# Altium integrated library TI Data Converters Analog to Digital Converter.IntLib: 2198 symbols (part 105 of 164)
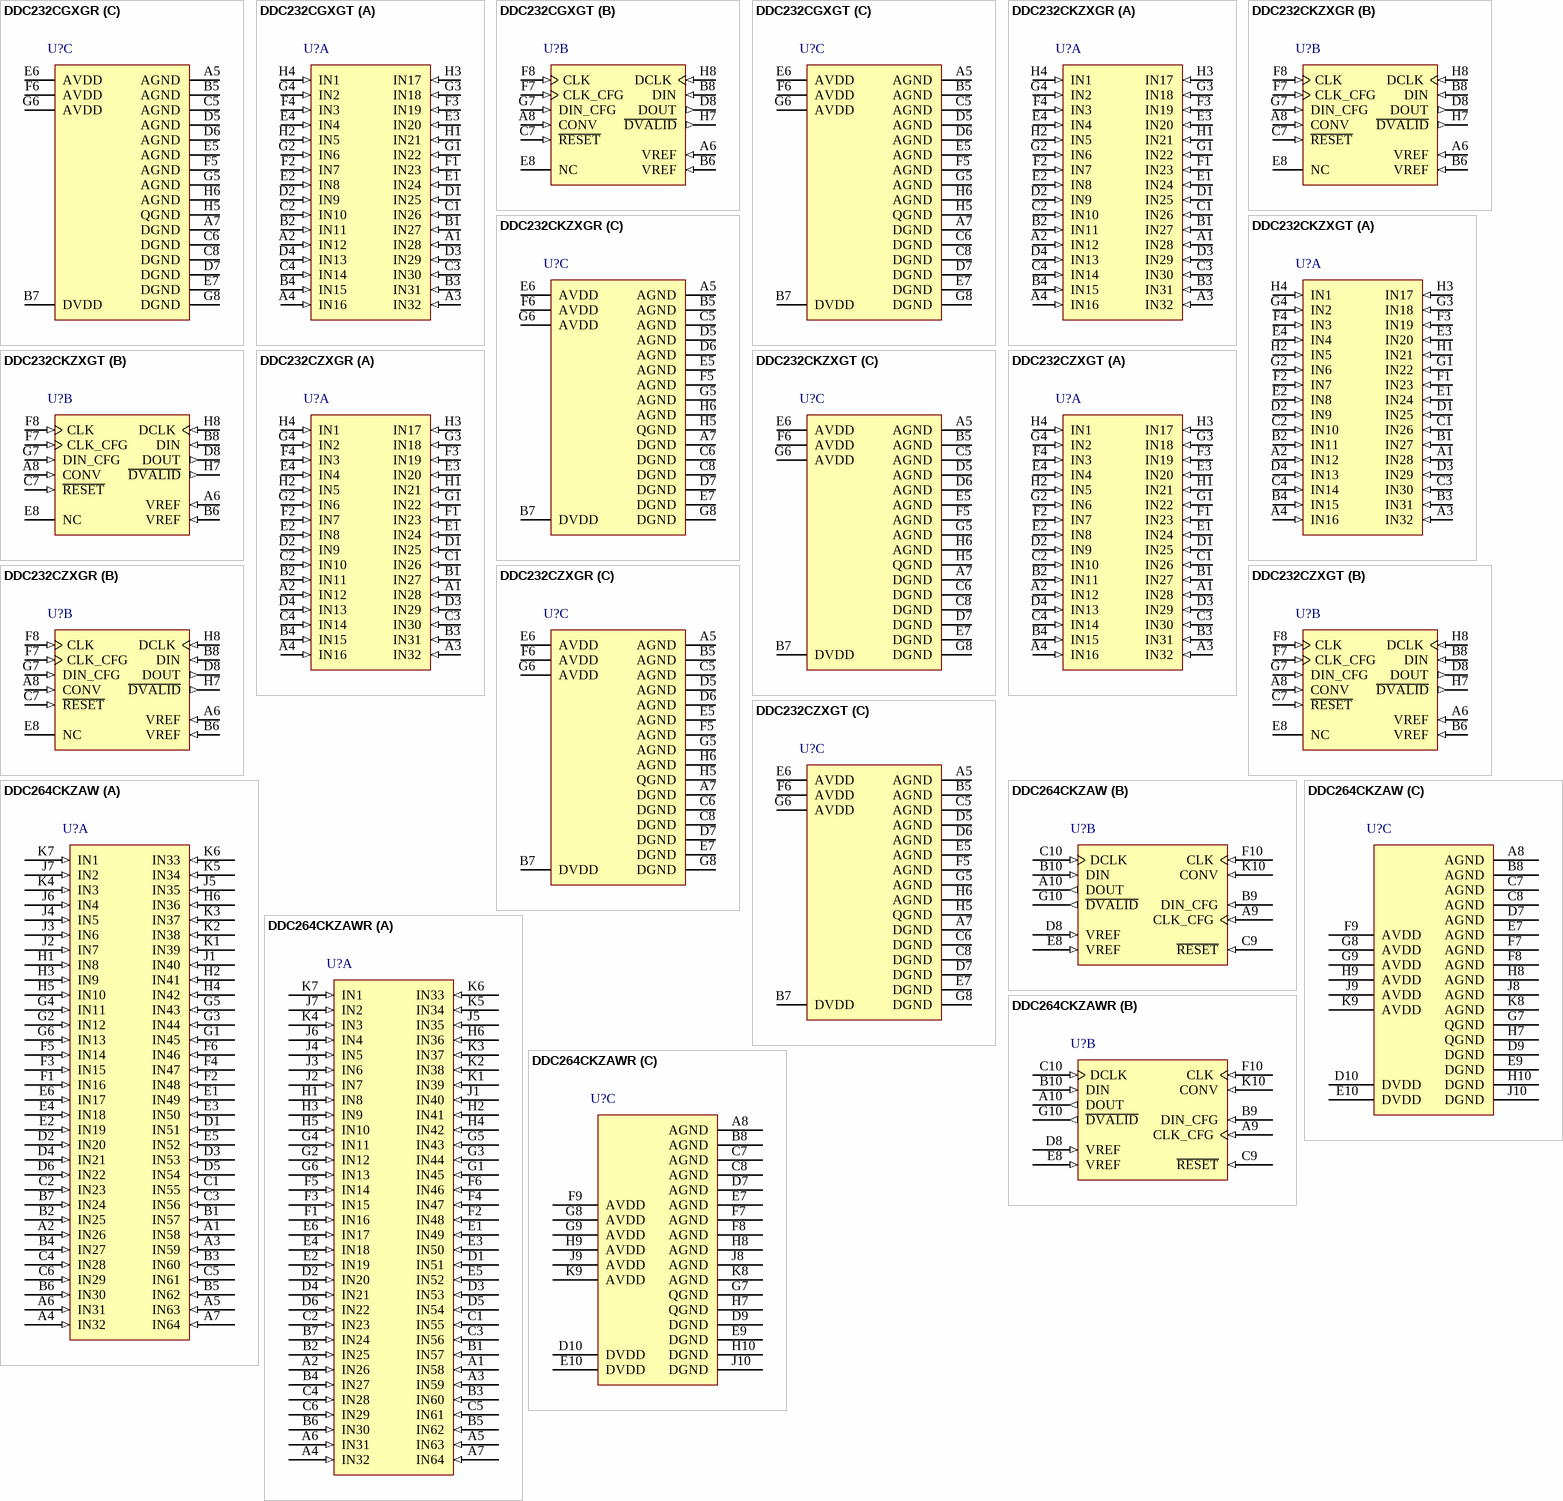
[diagram p230: symbols DDC232CGXGR to DDC264CKZAWR]

## DDC232CKZXGT
designator U?
32 Channel Current-Input 20-Bit ADC, 0 to 70 degC, 64-pin BGA (ZXG64), Green (RoHS & no Sb/Br); Manufacturer: Texas Instruments; PartNumber: DDC232CKZXGT; # Input Channels: 32; Analog Voltage AV/DD(Max)(V): 5.1; Analog Voltage AV/DD(Min)(V): 4.9; Architecture: Delta-Sigma; Digital Supply(Max)(V): 3.6; Digital Supply(Min)(V): 2.7; Resolution(Bits): 19; Sample Rate (max)(SPS): 6.2k; SubFamily: Low Power, 8-Bit, Dual 1.5 GSPS or Single 3.0 GSPS A/D Converter; DatasheetVersion: SBAS331D; PackageVersion: 4206838/A, 02/2005; PackageReference: ZXG64; PackageDescription: 64-Pin Plastic Ball Grid Array, Body 8 x 8 mm, Pitch 0.8 mm; Supplier 1: Digi-Key; Supplier Part Number 1: ADS574KE-ND; Eco-Plan: Green (RoHS & no Sb/Br); Mounting Technology: Surface Mount; ComponentLink1Description: Manufacturer URL; ComponentLink1URL: http://www.ti.com/; ComponentLink2Description: Datasheet; ComponentLink2URL: http://www.ti.com/general/docs/lit/getliterature.tsp?genericPartNumber=DDC232&fileType=pdf; ComponentLink3Description: Package Specification; ComponentLink3URL: http://www.ti.com/litv/pdf/mpbg581
footprint TI-ZXG64 (BGA, 64-Balls, Body 8x8mm, Pitch 0.8mm)
part A pins: A1 IN28 (in) "Analog Inputs for Channels 1 to 32", A2 IN12 (in) "Analog Inputs for Channels 1 to 32", A3 IN32 (in) "Analog Inputs for Channels 1 to 32", A4 IN16 (in) "Analog Inputs for Channels 1 to 32", B1 IN27 (in) "Analog Inputs for Channels 1 to 32", B2 IN11 (in) "Analog Inputs for Channels 1 to 32", B3 IN31 (in) "Analog Inputs for Channels 1 to 32", B4 IN15 (in) "Analog Inputs for Channels 1 to 32", C1 IN26 (in) "Analog Inputs for Channels 1 to 32", C2 IN10 (in) "Analog Inputs for Channels 1 to 32", C3 IN30 (in) "Analog Inputs for Channels 1 to 32", C4 IN14 (in) "Analog Inputs for Channels 1 to 32", D1 IN25 (in) "Analog Inputs for Channels 1 to 32", D2 IN9 (in) "Analog Inputs for Channels 1 to 32", D3 IN29 (in) "Analog Inputs for Channels 1 to 32", D4 IN13 (in) "Analog Inputs for Channels 1 to 32", E1 IN24 (in) "Analog Inputs for Channels 1 to 32", E2 IN8 (in) "Analog Inputs for Channels 1 to 32", E3 IN20 (in) "Analog Inputs for Channels 1 to 32", E4 IN4 (in) "Analog Inputs for Channels 1 to 32", F1 IN23 (in) "Analog Inputs for Channels 1 to 32", F2 IN7 (in) "Analog Inputs for Channels 1 to 32", F3 IN19 (in) "Analog Inputs for Channels 1 to 32", F4 IN3 (in) "Analog Inputs for Channels 1 to 32", G1 IN22 (in) "Analog Inputs for Channels 1 to 32", G2 IN6 (in) "Analog Inputs for Channels 1 to 32", G3 IN18 (in) "Analog Inputs for Channels 1 to 32", G4 IN2 (in) "Analog Inputs for Channels 1 to 32", H1 IN21 (in) "Analog Inputs for Channels 1 to 32", H2 IN5 (in) "Analog Inputs for Channels 1 to 32", H3 IN17 (in) "Analog Inputs for Channels 1 to 32", H4 IN1 (in) "Analog Inputs for Channels 1 to 32"
part B pins: A6 VREF (in) "External Voltage Reference Input, +4.096V Nominal", A8 CONV (in) "Conversion Control Input; 0 = Integrate on Side B, 1 = Integrate on Side A", B6 VREF (in) "External Voltage Reference Input, +4.096V Nominal", B8 DIN (in) "Serial Data Input", C7 ~{RESET} (in) "Digital Reset, Active Low", D8 DOUT (out) "Serial Data Output", E8 NC "Do not connect; must be left floating.", F7 CLK_CFG (in) "Configuration Register Clock Input", F8 CLK (in) "Master Clock Input", G7 DIN_CFG (in) "Configuration Register Data Input", H7 ~{DVALID} (out) "Data Valid Output, Active Low", H8 DCLK (in) "Serial Data Clock Input"
part C pins: A5 AGND (power) "Analog Ground", A7 DGND (power) "Digital Ground", B5 AGND (power) "Analog Ground", B7 DVDD (power) "Digital Power Supply, 3.3V Nominal", C5 AGND (power) "Analog Ground", C6 DGND (power) "Digital Ground", C8 DGND (power) "Digital Ground", D5 AGND (power) "Analog Ground", D6 AGND (power) "Analog Ground", D7 DGND (power) "Digital Ground", E5 AGND (power) "Analog Ground", E6 AVDD (power) "Analog Power Supply, +5V Nominal", E7 DGND (power) "Digital Ground", F5 AGND (power) "Analog Ground", F6 AVDD (power) "Analog Power Supply, +5V Nominal", G5 AGND (power) "Analog Ground", G6 AVDD (power) "Analog Power Supply, +5V Nominal", G8 DGND (power) "Digital Ground", H5 QGND (power) "Quiet Analog Ground", H6 AGND (power) "Analog Ground"

## DDC232CZXGR
designator U?
32 Channel Current-Input 20-Bit ADC, 0 to 70 degC, 64-pin BGA (ZXG64), Green (RoHS & no Sb/Br); Manufacturer: Texas Instruments; PartNumber: DDC232CZXGR; # Input Channels: 32; Analog Voltage AV/DD(Max)(V): 5.25; Analog Voltage AV/DD(Min)(V): 4.75; Architecture: Delta-Sigma; Digital Supply(Max)(V): 3.6; Digital Supply(Min)(V): 2.7; Resolution(Bits): 20; Sample Rate (max)(SPS): 3.125k; SubFamily: Low Power, 8-Bit, Dual 1.5 GSPS or Single 3.0 GSPS A/D Converter; DatasheetVersion: SBAS331D; PackageVersion: 4206838/A, 02/2005; PackageReference: ZXG64; PackageDescription: 64-Pin Plastic Ball Grid Array, Body 8 x 8 mm, Pitch 0.8 mm; Supplier 1: Digi-Key; Supplier Part Number 1: ADS574KEG4-ND; Eco-Plan: Green (RoHS & no Sb/Br); Mounting Technology: Surface Mount; ComponentLink1Description: Manufacturer URL; ComponentLink1URL: http://www.ti.com/; ComponentLink2Description: Datasheet; ComponentLink2URL: http://www.ti.com/general/docs/lit/getliterature.tsp?genericPartNumber=DDC232&fileType=pdf; ComponentLink3Description: Package Specification; ComponentLink3URL: http://www.ti.com/litv/pdf/mpbg581
footprint TI-ZXG64 (BGA, 64-Balls, Body 8x8mm, Pitch 0.8mm)
part A pins: A1 IN28 (in) "Analog Inputs for Channels 1 to 32", A2 IN12 (in) "Analog Inputs for Channels 1 to 32", A3 IN32 (in) "Analog Inputs for Channels 1 to 32", A4 IN16 (in) "Analog Inputs for Channels 1 to 32", B1 IN27 (in) "Analog Inputs for Channels 1 to 32", B2 IN11 (in) "Analog Inputs for Channels 1 to 32", B3 IN31 (in) "Analog Inputs for Channels 1 to 32", B4 IN15 (in) "Analog Inputs for Channels 1 to 32", C1 IN26 (in) "Analog Inputs for Channels 1 to 32", C2 IN10 (in) "Analog Inputs for Channels 1 to 32", C3 IN30 (in) "Analog Inputs for Channels 1 to 32", C4 IN14 (in) "Analog Inputs for Channels 1 to 32", D1 IN25 (in) "Analog Inputs for Channels 1 to 32", D2 IN9 (in) "Analog Inputs for Channels 1 to 32", D3 IN29 (in) "Analog Inputs for Channels 1 to 32", D4 IN13 (in) "Analog Inputs for Channels 1 to 32", E1 IN24 (in) "Analog Inputs for Channels 1 to 32", E2 IN8 (in) "Analog Inputs for Channels 1 to 32", E3 IN20 (in) "Analog Inputs for Channels 1 to 32", E4 IN4 (in) "Analog Inputs for Channels 1 to 32", F1 IN23 (in) "Analog Inputs for Channels 1 to 32", F2 IN7 (in) "Analog Inputs for Channels 1 to 32", F3 IN19 (in) "Analog Inputs for Channels 1 to 32", F4 IN3 (in) "Analog Inputs for Channels 1 to 32", G1 IN22 (in) "Analog Inputs for Channels 1 to 32", G2 IN6 (in) "Analog Inputs for Channels 1 to 32", G3 IN18 (in) "Analog Inputs for Channels 1 to 32", G4 IN2 (in) "Analog Inputs for Channels 1 to 32", H1 IN21 (in) "Analog Inputs for Channels 1 to 32", H2 IN5 (in) "Analog Inputs for Channels 1 to 32", H3 IN17 (in) "Analog Inputs for Channels 1 to 32", H4 IN1 (in) "Analog Inputs for Channels 1 to 32"
part B pins: A6 VREF (in) "External Voltage Reference Input, +4.096V Nominal", A8 CONV (in) "Conversion Control Input; 0 = Integrate on Side B, 1 = Integrate on Side A", B6 VREF (in) "External Voltage Reference Input, +4.096V Nominal", B8 DIN (in) "Serial Data Input", C7 ~{RESET} (in) "Digital Reset, Active Low", D8 DOUT (out) "Serial Data Output", E8 NC "Do not connect; must be left floating.", F7 CLK_CFG (in) "Configuration Register Clock Input", F8 CLK (in) "Master Clock Input", G7 DIN_CFG (in) "Configuration Register Data Input", H7 ~{DVALID} (out) "Data Valid Output, Active Low", H8 DCLK (in) "Serial Data Clock Input"
part C pins: A5 AGND (power) "Analog Ground", A7 DGND (power) "Digital Ground", B5 AGND (power) "Analog Ground", B7 DVDD (power) "Digital Power Supply, 3.3V Nominal", C5 AGND (power) "Analog Ground", C6 DGND (power) "Digital Ground", C8 DGND (power) "Digital Ground", D5 AGND (power) "Analog Ground", D6 AGND (power) "Analog Ground", D7 DGND (power) "Digital Ground", E5 AGND (power) "Analog Ground", E6 AVDD (power) "Analog Power Supply, +5V Nominal", E7 DGND (power) "Digital Ground", F5 AGND (power) "Analog Ground", F6 AVDD (power) "Analog Power Supply, +5V Nominal", G5 AGND (power) "Analog Ground", G6 AVDD (power) "Analog Power Supply, +5V Nominal", G8 DGND (power) "Digital Ground", H5 QGND (power) "Quiet Analog Ground", H6 AGND (power) "Analog Ground"

## DDC232CZXGT
designator U?
32 Channel Current-Input 20-Bit ADC, 0 to 70 degC, 64-pin BGA (ZXG64), Green (RoHS & no Sb/Br); Manufacturer: Texas Instruments; PartNumber: DDC232CZXGT; # Input Channels: 32; Analog Voltage AV/DD(Max)(V): 5.25; Analog Voltage AV/DD(Min)(V): 4.75; Architecture: Delta-Sigma; Digital Supply(Max)(V): 3.6; Digital Supply(Min)(V): 2.7; Resolution(Bits): 20; Sample Rate (max)(SPS): 3.125k; SubFamily: Low Power, 8-Bit, Dual 1.5 GSPS or Single 3.0 GSPS A/D Converter; DatasheetVersion: SBAS331D; PackageVersion: 4206838/A, 02/2005; PackageReference: ZXG64; PackageDescription: 64-Pin Plastic Ball Grid Array, Body 8 x 8 mm, Pitch 0.8 mm; Supplier 1: Digi-Key; Supplier Part Number 1: ADS574KP-ND; Eco-Plan: Green (RoHS & no Sb/Br); Mounting Technology: Surface Mount; ComponentLink1Description: Manufacturer URL; ComponentLink1URL: http://www.ti.com/; ComponentLink2Description: Datasheet; ComponentLink2URL: http://www.ti.com/general/docs/lit/getliterature.tsp?genericPartNumber=DDC232&fileType=pdf; ComponentLink3Description: Package Specification; ComponentLink3URL: http://www.ti.com/litv/pdf/mpbg581
footprint TI-ZXG64 (BGA, 64-Balls, Body 8x8mm, Pitch 0.8mm)
part A pins: A1 IN28 (in) "Analog Inputs for Channels 1 to 32", A2 IN12 (in) "Analog Inputs for Channels 1 to 32", A3 IN32 (in) "Analog Inputs for Channels 1 to 32", A4 IN16 (in) "Analog Inputs for Channels 1 to 32", B1 IN27 (in) "Analog Inputs for Channels 1 to 32", B2 IN11 (in) "Analog Inputs for Channels 1 to 32", B3 IN31 (in) "Analog Inputs for Channels 1 to 32", B4 IN15 (in) "Analog Inputs for Channels 1 to 32", C1 IN26 (in) "Analog Inputs for Channels 1 to 32", C2 IN10 (in) "Analog Inputs for Channels 1 to 32", C3 IN30 (in) "Analog Inputs for Channels 1 to 32", C4 IN14 (in) "Analog Inputs for Channels 1 to 32", D1 IN25 (in) "Analog Inputs for Channels 1 to 32", D2 IN9 (in) "Analog Inputs for Channels 1 to 32", D3 IN29 (in) "Analog Inputs for Channels 1 to 32", D4 IN13 (in) "Analog Inputs for Channels 1 to 32", E1 IN24 (in) "Analog Inputs for Channels 1 to 32", E2 IN8 (in) "Analog Inputs for Channels 1 to 32", E3 IN20 (in) "Analog Inputs for Channels 1 to 32", E4 IN4 (in) "Analog Inputs for Channels 1 to 32", F1 IN23 (in) "Analog Inputs for Channels 1 to 32", F2 IN7 (in) "Analog Inputs for Channels 1 to 32", F3 IN19 (in) "Analog Inputs for Channels 1 to 32", F4 IN3 (in) "Analog Inputs for Channels 1 to 32", G1 IN22 (in) "Analog Inputs for Channels 1 to 32", G2 IN6 (in) "Analog Inputs for Channels 1 to 32", G3 IN18 (in) "Analog Inputs for Channels 1 to 32", G4 IN2 (in) "Analog Inputs for Channels 1 to 32", H1 IN21 (in) "Analog Inputs for Channels 1 to 32", H2 IN5 (in) "Analog Inputs for Channels 1 to 32", H3 IN17 (in) "Analog Inputs for Channels 1 to 32", H4 IN1 (in) "Analog Inputs for Channels 1 to 32"
part B pins: A6 VREF (in) "External Voltage Reference Input, +4.096V Nominal", A8 CONV (in) "Conversion Control Input; 0 = Integrate on Side B, 1 = Integrate on Side A", B6 VREF (in) "External Voltage Reference Input, +4.096V Nominal", B8 DIN (in) "Serial Data Input", C7 ~{RESET} (in) "Digital Reset, Active Low", D8 DOUT (out) "Serial Data Output", E8 NC "Do not connect; must be left floating.", F7 CLK_CFG (in) "Configuration Register Clock Input", F8 CLK (in) "Master Clock Input", G7 DIN_CFG (in) "Configuration Register Data Input", H7 ~{DVALID} (out) "Data Valid Output, Active Low", H8 DCLK (in) "Serial Data Clock Input"
part C pins: A5 AGND (power) "Analog Ground", A7 DGND (power) "Digital Ground", B5 AGND (power) "Analog Ground", B7 DVDD (power) "Digital Power Supply, 3.3V Nominal", C5 AGND (power) "Analog Ground", C6 DGND (power) "Digital Ground", C8 DGND (power) "Digital Ground", D5 AGND (power) "Analog Ground", D6 AGND (power) "Analog Ground", D7 DGND (power) "Digital Ground", E5 AGND (power) "Analog Ground", E6 AVDD (power) "Analog Power Supply, +5V Nominal", E7 DGND (power) "Digital Ground", F5 AGND (power) "Analog Ground", F6 AVDD (power) "Analog Power Supply, +5V Nominal", G5 AGND (power) "Analog Ground", G6 AVDD (power) "Analog Power Supply, +5V Nominal", G8 DGND (power) "Digital Ground", H5 QGND (power) "Quiet Analog Ground", H6 AGND (power) "Analog Ground"

## DDC264CKZAW
designator U?
64-Channel, Current-Input ADC, 0 to 70 degC, 100-pin BGA (ZAW100), Green (RoHS & no Sb/Br); Manufacturer: Texas Instruments; PartNumber: DDC264CKZAW; # Input Channels: 64; Analog Voltage AV/DD(Max)(V): 5.25; Analog Voltage AV/DD(Min)(V): 4.75; Architecture: Delta-Sigma; Digital Supply(Max)(V): 3.6; Digital Supply(Min)(V): 2.7; Resolution(Bits): 20; Sample Rate (max)(SPS): 6.25k; SubFamily: Current Input ADC; DatasheetVersion: SBAS368C; PackageVersion: 4208028/C, 08/2009; PackageReference: ZAW100; PackageDescription: 100-Pin Plastic Ball Grid Array, Body 9 x 9 mm, Pitch 0.8 mm; Supplier 1: Digi-Key; Supplier Part Number 1: ADS574KPG4-ND; Eco-Plan: Green (RoHS & no Sb/Br); Mounting Technology: Surface Mount; ComponentLink1Description: Manufacturer URL; ComponentLink1URL: http://www.ti.com/; ComponentLink2Description: Datasheet; ComponentLink2URL: http://www.ti.com/general/docs/lit/getliterature.tsp?genericPartNumber=DDC264&fileType=pdf; ComponentLink3Description: Package Specification; ComponentLink3URL: http://www.ti.com/litv/pdf/mpbg757b
footprint TI-ZAW100 (BGA, 100-Balls, Body 9x9mm, Pitch 0.8mm)
part A pins: A1 IN58 (in) "Analog inputs for channels 1 to 64", A2 IN26 (in) "Analog inputs for channels 1 to 64", A3 IN59 (in) "Analog inputs for channels 1 to 64", A4 IN32 (in) "Analog inputs for channels 1 to 64", A5 IN63 (in) "Analog inputs for channels 1 to 64", A6 IN31 (in) "Analog inputs for channels 1 to 64", A7 IN64 (in) "Analog inputs for channels 1 to 64", B1 IN57 (in) "Analog inputs for channels 1 to 64", B2 IN25 (in) "Analog inputs for channels 1 to 64", B3 IN60 (in) "Analog inputs for channels 1 to 64", B4 IN27 (in) "Analog inputs for channels 1 to 64", B5 IN62 (in) "Analog inputs for channels 1 to 64", B6 IN30 (in) "Analog inputs for channels 1 to 64", B7 IN24 (in) "Analog inputs for channels 1 to 64", C1 IN55 (in) "Analog inputs for channels 1 to 64", C2 IN23 (in) "Analog inputs for channels 1 to 64", C3 IN56 (in) "Analog inputs for channels 1 to 64", C4 IN28 (in) "Analog inputs for channels 1 to 64", C5 IN61 (in) "Analog inputs for channels 1 to 64", C6 IN29 (in) "Analog inputs for channels 1 to 64", D1 IN51 (in) "Analog inputs for channels 1 to 64", D2 IN20 (in) "Analog inputs for channels 1 to 64", D3 IN53 (in) "Analog inputs for channels 1 to 64", D4 IN21 (in) "Analog inputs for channels 1 to 64", D5 IN54 (in) "Analog inputs for channels 1 to 64", D6 IN22 (in) "Analog inputs for channels 1 to 64", E1 IN49 (in) "Analog inputs for channels 1 to 64", E2 IN19 (in) "Analog inputs for channels 1 to 64", E3 IN50 (in) "Analog inputs for channels 1 to 64", E4 IN18 (in) "Analog inputs for channels 1 to 64", E5 IN52 (in) "Analog inputs for channels 1 to 64", E6 IN17 (in) "Analog inputs for channels 1 to 64", F1 IN16 (in) "Analog inputs for channels 1 to 64", F2 IN48 (in) "Analog inputs for channels 1 to 64", F3 IN15 (in) "Analog inputs for channels 1 to 64", F4 IN47 (in) "Analog inputs for channels 1 to 64", F5 IN14 (in) "Analog inputs for channels 1 to 64", F6 IN46 (in) "Analog inputs for channels 1 to 64", G1 IN45 (in) "Analog inputs for channels 1 to 64", G2 IN12 (in) "Analog inputs for channels 1 to 64", G3 IN44 (in) "Analog inputs for channels 1 to 64", G4 IN11 (in) "Analog inputs for channels 1 to 64", G5 IN43 (in) "Analog inputs for channels 1 to 64", G6 IN13 (in) "Analog inputs for channels 1 to 64", H1 IN8 (in) "Analog inputs for channels 1 to 64", H2 IN41 (in) "Analog inputs for channels 1 to 64", H3 IN9 (in) "Analog inputs for channels 1 to 64", H4 IN42 (in) "Analog inputs for channels 1 to 64", H5 IN10 (in) "Analog inputs for channels 1 to 64", H6 IN36 (in) "Analog inputs for channels 1 to 64", J1 IN40 (in) "Analog inputs for channels 1 to 64", J2 IN7 (in) "Analog inputs for channels 1 to 64", J3 IN6 (in) "Analog inputs for channels 1 to 64", J4 IN5 (in) "Analog inputs for channels 1 to 64", J5 IN35 (in) "Analog inputs for channels 1 to 64", J6 IN4 (in) "Analog inputs for channels 1 to 64", J7 IN2 (in) "Analog inputs for channels 1 to 64", K1 IN39 (in) "Analog inputs for channels 1 to 64", K2 IN38 (in) "Analog inputs for channels 1 to 64", K3 IN37 (in) "Analog inputs for channels 1 to 64", K4 IN3 (in) "Analog inputs for channels 1 to 64", K5 IN34 (in) "Analog inputs for channels 1 to 64", K6 IN33 (in) "Analog inputs for channels 1 to 64", K7 IN1 (in) "Analog inputs for channels 1 to 64"
part B pins: A9 CLK_CFG (in) "Configuration register clock input", A10 DOUT (out) "Serial data output", B9 DIN_CFG (in) "Configuration register data input", B10 DIN (in) "Serial data input", C9 ~{RESET} (in) "Digital reset, active low", C10 DCLK (in) "Serial data clock input", D8 VREF (in) "External voltage reference input, +4.096V nominal", E8 VREF (in) "External voltage reference input, +4.096V nominal", F10 CLK (in) "Master clock input", G10 ~{DVALID} (out) "Data valid output, active low", K10 CONV (in) "Conversion control input: 0 = integrate on side B; 1 = integrate on side A"
part C pins: A8 AGND (power) "Analog ground", B8 AGND (power) "Analog ground", C7 AGND (power) "Analog ground", C8 AGND (power) "Analog ground", D7 AGND (power) "Analog ground", D9 DGND (power) "Digital ground", D10 DVDD (power) "Digital power supply, +3.3V nominal", E7 AGND (power) "Analog ground", E9 DGND (power) "Digital ground", E10 DVDD (power) "Digital power supply, +3.3V nominal", F7 AGND (power) "Analog ground", F8 AGND (power) "Analog ground", F9 AVDD (power) "Analog power supply, +5V nominal", G7 QGND (power) "Quiet analog ground; see the guidelines described in the Layout section", G8 AVDD (power) "Analog power supply, +5V nominal", G9 AVDD (power) "Analog power supply, +5V nominal", H7 QGND (power) "Quiet analog ground; see the guidelines described in the Layout section", H8 AGND (power) "Analog ground", H9 AVDD (power) "Analog power supply, +5V nominal", H10 DGND (power) "Digital ground", J8 AGND (power) "Analog ground", J9 AVDD (power) "Analog power supply, +5V nominal", J10 DGND (power) "Digital ground", K8 AGND (power) "Analog ground", K9 AVDD (power) "Analog power supply, +5V nominal"

## DDC264CKZAWR
designator U?
64-Channel, Current-Input ADC, 0 to 70 degC, 100-pin BGA (ZAW100), Green (RoHS & no Sb/Br); Manufacturer: Texas Instruments; PartNumber: DDC264CKZAWR; # Input Channels: 64; Analog Voltage AV/DD(Max)(V): 5.25; Analog Voltage AV/DD(Min)(V): 4.75; Architecture: Delta-Sigma; Digital Supply(Max)(V): 3.6; Digital Supply(Min)(V): 2.7; Resolution(Bits): 20; Sample Rate (max)(SPS): 6.25k; SubFamily: Current Input ADC; DatasheetVersion: SBAS368C; PackageVersion: 4208028/C, 08/2009; PackageReference: ZAW100; PackageDescription: 100-Pin Plastic Ball Grid Array, Body 9 x 9 mm, Pitch 0.8 mm; Supplier 1: Digi-Key; Supplier Part Number 1: ADS7800JP-ND; Eco-Plan: Green (RoHS & no Sb/Br); Mounting Technology: Surface Mount; ComponentLink1Description: Manufacturer URL; ComponentLink1URL: http://www.ti.com/; ComponentLink2Description: Datasheet; ComponentLink2URL: http://www.ti.com/general/docs/lit/getliterature.tsp?genericPartNumber=DDC264&fileType=pdf; ComponentLink3Description: Package Specification; ComponentLink3URL: http://www.ti.com/litv/pdf/mpbg757b
footprint TI-ZAW100 (BGA, 100-Balls, Body 9x9mm, Pitch 0.8mm)
part A pins: A1 IN58 (in) "Analog inputs for channels 1 to 64", A2 IN26 (in) "Analog inputs for channels 1 to 64", A3 IN59 (in) "Analog inputs for channels 1 to 64", A4 IN32 (in) "Analog inputs for channels 1 to 64", A5 IN63 (in) "Analog inputs for channels 1 to 64", A6 IN31 (in) "Analog inputs for channels 1 to 64", A7 IN64 (in) "Analog inputs for channels 1 to 64", B1 IN57 (in) "Analog inputs for channels 1 to 64", B2 IN25 (in) "Analog inputs for channels 1 to 64", B3 IN60 (in) "Analog inputs for channels 1 to 64", B4 IN27 (in) "Analog inputs for channels 1 to 64", B5 IN62 (in) "Analog inputs for channels 1 to 64", B6 IN30 (in) "Analog inputs for channels 1 to 64", B7 IN24 (in) "Analog inputs for channels 1 to 64", C1 IN55 (in) "Analog inputs for channels 1 to 64", C2 IN23 (in) "Analog inputs for channels 1 to 64", C3 IN56 (in) "Analog inputs for channels 1 to 64", C4 IN28 (in) "Analog inputs for channels 1 to 64", C5 IN61 (in) "Analog inputs for channels 1 to 64", C6 IN29 (in) "Analog inputs for channels 1 to 64", D1 IN51 (in) "Analog inputs for channels 1 to 64", D2 IN20 (in) "Analog inputs for channels 1 to 64", D3 IN53 (in) "Analog inputs for channels 1 to 64", D4 IN21 (in) "Analog inputs for channels 1 to 64", D5 IN54 (in) "Analog inputs for channels 1 to 64", D6 IN22 (in) "Analog inputs for channels 1 to 64", E1 IN49 (in) "Analog inputs for channels 1 to 64", E2 IN19 (in) "Analog inputs for channels 1 to 64", E3 IN50 (in) "Analog inputs for channels 1 to 64", E4 IN18 (in) "Analog inputs for channels 1 to 64", E5 IN52 (in) "Analog inputs for channels 1 to 64", E6 IN17 (in) "Analog inputs for channels 1 to 64", F1 IN16 (in) "Analog inputs for channels 1 to 64", F2 IN48 (in) "Analog inputs for channels 1 to 64", F3 IN15 (in) "Analog inputs for channels 1 to 64", F4 IN47 (in) "Analog inputs for channels 1 to 64", F5 IN14 (in) "Analog inputs for channels 1 to 64", F6 IN46 (in) "Analog inputs for channels 1 to 64", G1 IN45 (in) "Analog inputs for channels 1 to 64", G2 IN12 (in) "Analog inputs for channels 1 to 64", G3 IN44 (in) "Analog inputs for channels 1 to 64", G4 IN11 (in) "Analog inputs for channels 1 to 64", G5 IN43 (in) "Analog inputs for channels 1 to 64", G6 IN13 (in) "Analog inputs for channels 1 to 64", H1 IN8 (in) "Analog inputs for channels 1 to 64", H2 IN41 (in) "Analog inputs for channels 1 to 64", H3 IN9 (in) "Analog inputs for channels 1 to 64", H4 IN42 (in) "Analog inputs for channels 1 to 64", H5 IN10 (in) "Analog inputs for channels 1 to 64", H6 IN36 (in) "Analog inputs for channels 1 to 64", J1 IN40 (in) "Analog inputs for channels 1 to 64", J2 IN7 (in) "Analog inputs for channels 1 to 64", J3 IN6 (in) "Analog inputs for channels 1 to 64", J4 IN5 (in) "Analog inputs for channels 1 to 64", J5 IN35 (in) "Analog inputs for channels 1 to 64", J6 IN4 (in) "Analog inputs for channels 1 to 64", J7 IN2 (in) "Analog inputs for channels 1 to 64", K1 IN39 (in) "Analog inputs for channels 1 to 64", K2 IN38 (in) "Analog inputs for channels 1 to 64", K3 IN37 (in) "Analog inputs for channels 1 to 64", K4 IN3 (in) "Analog inputs for channels 1 to 64", K5 IN34 (in) "Analog inputs for channels 1 to 64", K6 IN33 (in) "Analog inputs for channels 1 to 64", K7 IN1 (in) "Analog inputs for channels 1 to 64"
part B pins: A9 CLK_CFG (in) "Configuration register clock input", A10 DOUT (out) "Serial data output", B9 DIN_CFG (in) "Configuration register data input", B10 DIN (in) "Serial data input", C9 ~{RESET} (in) "Digital reset, active low", C10 DCLK (in) "Serial data clock input", D8 VREF (in) "External voltage reference input, +4.096V nominal", E8 VREF (in) "External voltage reference input, +4.096V nominal", F10 CLK (in) "Master clock input", G10 ~{DVALID} (out) "Data valid output, active low", K10 CONV (in) "Conversion control input: 0 = integrate on side B; 1 = integrate on side A"
part C pins: A8 AGND (power) "Analog ground", B8 AGND (power) "Analog ground", C7 AGND (power) "Analog ground", C8 AGND (power) "Analog ground", D7 AGND (power) "Analog ground", D9 DGND (power) "Digital ground", D10 DVDD (power) "Digital power supply, +3.3V nominal", E7 AGND (power) "Analog ground", E9 DGND (power) "Digital ground", E10 DVDD (power) "Digital power supply, +3.3V nominal", F7 AGND (power) "Analog ground", F8 AGND (power) "Analog ground", F9 AVDD (power) "Analog power supply, +5V nominal", G7 QGND (power) "Quiet analog ground; see the guidelines described in the Layout section", G8 AVDD (power) "Analog power supply, +5V nominal", G9 AVDD (power) "Analog power supply, +5V nominal", H7 QGND (power) "Quiet analog ground; see the guidelines described in the Layout section", H8 AGND (power) "Analog ground", H9 AVDD (power) "Analog power supply, +5V nominal", H10 DGND (power) "Digital ground", J8 AGND (power) "Analog ground", J9 AVDD (power) "Analog power supply, +5V nominal", J10 DGND (power) "Digital ground", K8 AGND (power) "Analog ground", K9 AVDD (power) "Analog power supply, +5V nominal"

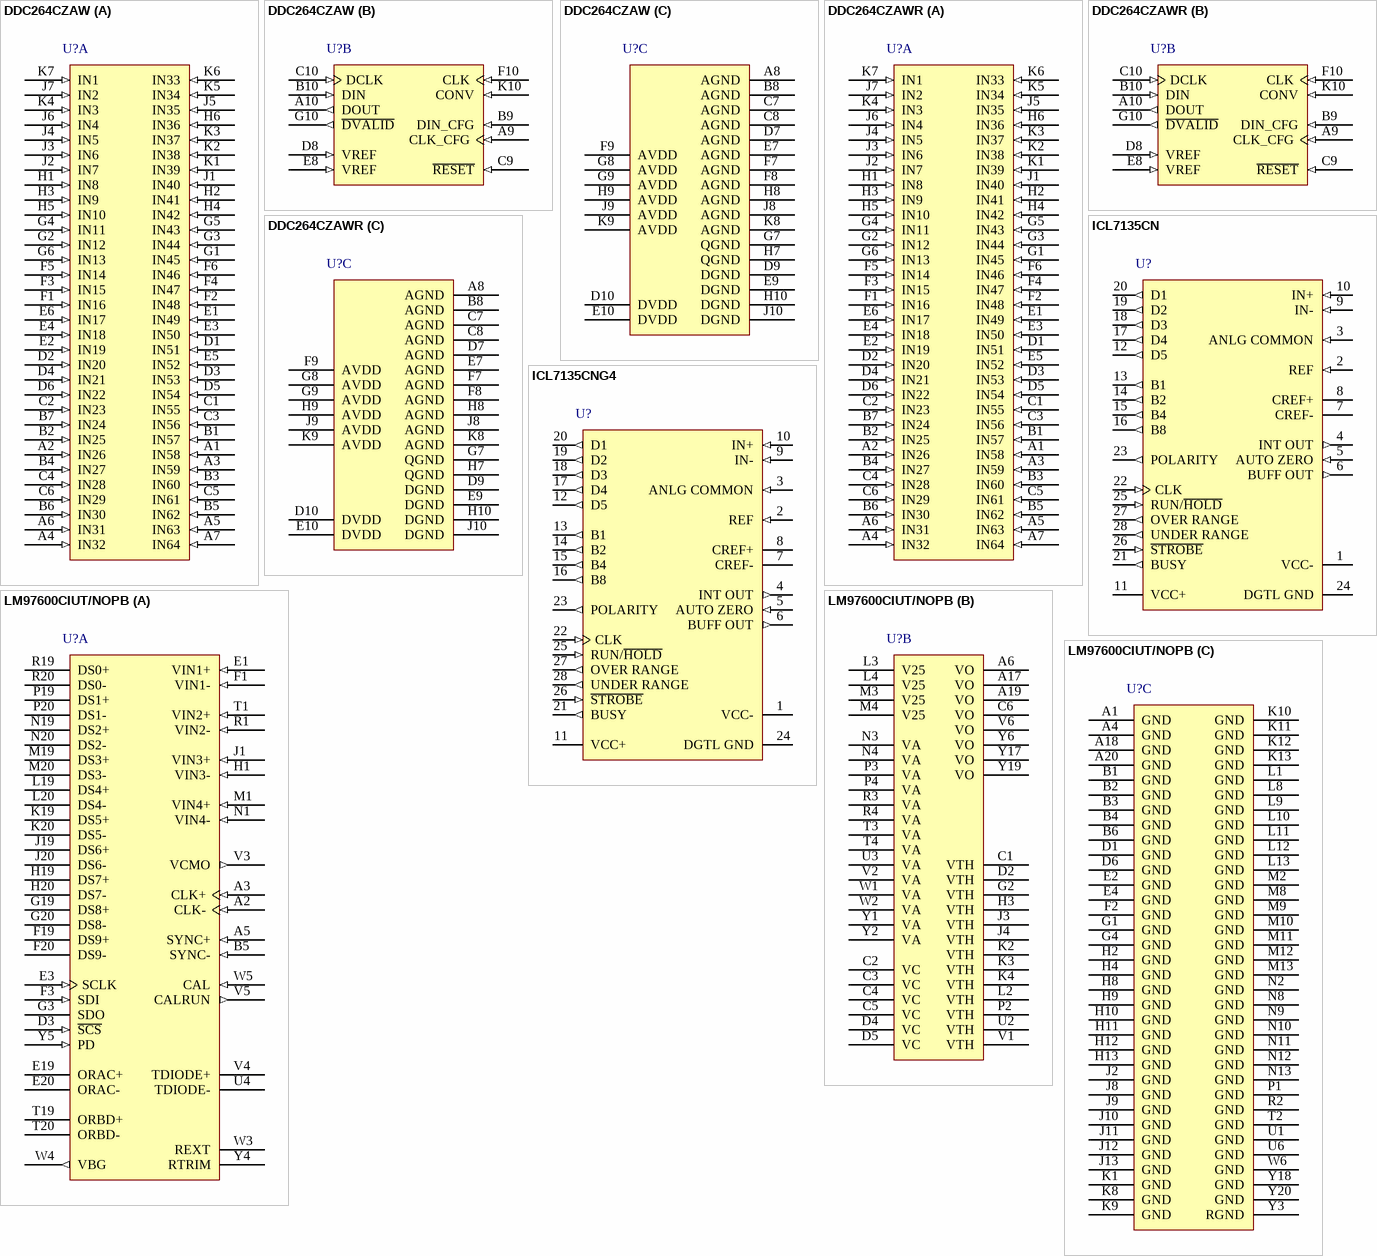
[diagram p92: symbols DDC264CZAW to LM97600CIUT/NOPB]

## DDC264CZAW
designator U?
64-Channel, Current-Input ADC, 0 to 70 degC, 100-pin BGA (ZAW100), Green (RoHS & no Sb/Br); Manufacturer: Texas Instruments; PartNumber: DDC264CZAW; # Input Channels: 64; Analog Voltage AV/DD(Max)(V): 5.25; Analog Voltage AV/DD(Min)(V): 4.75; Architecture: Delta-Sigma; Digital Supply(Max)(V): 3.6; Digital Supply(Min)(V): 2.7; Resolution(Bits): 20; Sample Rate (max)(SPS): 3.125K; SubFamily: Current Input ADC; DatasheetVersion: SBAS368C; PackageVersion: 4208028/C, 08/2009; PackageReference: ZAW100; PackageDescription: 100-Pin Plastic Ball Grid Array, Body 9 x 9 mm, Pitch 0.8 mm; Supplier 1: Digi-Key; Supplier Part Number 1: ADS7800JPG4-ND; Eco-Plan: Green (RoHS & no Sb/Br); Mounting Technology: Surface Mount; ComponentLink1Description: Manufacturer URL; ComponentLink1URL: http://www.ti.com/; ComponentLink2Description: Datasheet; ComponentLink2URL: http://www.ti.com/general/docs/lit/getliterature.tsp?genericPartNumber=DDC264&fileType=pdf; ComponentLink3Description: Package Specification; ComponentLink3URL: http://www.ti.com/litv/pdf/mpbg757b
footprint TI-ZAW100 (BGA, 100-Balls, Body 9x9mm, Pitch 0.8mm)
part A pins: A1 IN58 (in) "Analog inputs for channels 1 to 64", A2 IN26 (in) "Analog inputs for channels 1 to 64", A3 IN59 (in) "Analog inputs for channels 1 to 64", A4 IN32 (in) "Analog inputs for channels 1 to 64", A5 IN63 (in) "Analog inputs for channels 1 to 64", A6 IN31 (in) "Analog inputs for channels 1 to 64", A7 IN64 (in) "Analog inputs for channels 1 to 64", B1 IN57 (in) "Analog inputs for channels 1 to 64", B2 IN25 (in) "Analog inputs for channels 1 to 64", B3 IN60 (in) "Analog inputs for channels 1 to 64", B4 IN27 (in) "Analog inputs for channels 1 to 64", B5 IN62 (in) "Analog inputs for channels 1 to 64", B6 IN30 (in) "Analog inputs for channels 1 to 64", B7 IN24 (in) "Analog inputs for channels 1 to 64", C1 IN55 (in) "Analog inputs for channels 1 to 64", C2 IN23 (in) "Analog inputs for channels 1 to 64", C3 IN56 (in) "Analog inputs for channels 1 to 64", C4 IN28 (in) "Analog inputs for channels 1 to 64", C5 IN61 (in) "Analog inputs for channels 1 to 64", C6 IN29 (in) "Analog inputs for channels 1 to 64", D1 IN51 (in) "Analog inputs for channels 1 to 64", D2 IN20 (in) "Analog inputs for channels 1 to 64", D3 IN53 (in) "Analog inputs for channels 1 to 64", D4 IN21 (in) "Analog inputs for channels 1 to 64", D5 IN54 (in) "Analog inputs for channels 1 to 64", D6 IN22 (in) "Analog inputs for channels 1 to 64", E1 IN49 (in) "Analog inputs for channels 1 to 64", E2 IN19 (in) "Analog inputs for channels 1 to 64", E3 IN50 (in) "Analog inputs for channels 1 to 64", E4 IN18 (in) "Analog inputs for channels 1 to 64", E5 IN52 (in) "Analog inputs for channels 1 to 64", E6 IN17 (in) "Analog inputs for channels 1 to 64", F1 IN16 (in) "Analog inputs for channels 1 to 64", F2 IN48 (in) "Analog inputs for channels 1 to 64", F3 IN15 (in) "Analog inputs for channels 1 to 64", F4 IN47 (in) "Analog inputs for channels 1 to 64", F5 IN14 (in) "Analog inputs for channels 1 to 64", F6 IN46 (in) "Analog inputs for channels 1 to 64", G1 IN45 (in) "Analog inputs for channels 1 to 64", G2 IN12 (in) "Analog inputs for channels 1 to 64", G3 IN44 (in) "Analog inputs for channels 1 to 64", G4 IN11 (in) "Analog inputs for channels 1 to 64", G5 IN43 (in) "Analog inputs for channels 1 to 64", G6 IN13 (in) "Analog inputs for channels 1 to 64", H1 IN8 (in) "Analog inputs for channels 1 to 64", H2 IN41 (in) "Analog inputs for channels 1 to 64", H3 IN9 (in) "Analog inputs for channels 1 to 64", H4 IN42 (in) "Analog inputs for channels 1 to 64", H5 IN10 (in) "Analog inputs for channels 1 to 64", H6 IN36 (in) "Analog inputs for channels 1 to 64", J1 IN40 (in) "Analog inputs for channels 1 to 64", J2 IN7 (in) "Analog inputs for channels 1 to 64", J3 IN6 (in) "Analog inputs for channels 1 to 64", J4 IN5 (in) "Analog inputs for channels 1 to 64", J5 IN35 (in) "Analog inputs for channels 1 to 64", J6 IN4 (in) "Analog inputs for channels 1 to 64", J7 IN2 (in) "Analog inputs for channels 1 to 64", K1 IN39 (in) "Analog inputs for channels 1 to 64", K2 IN38 (in) "Analog inputs for channels 1 to 64", K3 IN37 (in) "Analog inputs for channels 1 to 64", K4 IN3 (in) "Analog inputs for channels 1 to 64", K5 IN34 (in) "Analog inputs for channels 1 to 64", K6 IN33 (in) "Analog inputs for channels 1 to 64", K7 IN1 (in) "Analog inputs for channels 1 to 64"
part B pins: A9 CLK_CFG (in) "Configuration register clock input", A10 DOUT (out) "Serial data output", B9 DIN_CFG (in) "Configuration register data input", B10 DIN (in) "Serial data input", C9 ~{RESET} (in) "Digital reset, active low", C10 DCLK (in) "Serial data clock input", D8 VREF (in) "External voltage reference input, +4.096V nominal", E8 VREF (in) "External voltage reference input, +4.096V nominal", F10 CLK (in) "Master clock input", G10 ~{DVALID} (out) "Data valid output, active low", K10 CONV (in) "Conversion control input: 0 = integrate on side B; 1 = integrate on side A"
part C pins: A8 AGND (power) "Analog ground", B8 AGND (power) "Analog ground", C7 AGND (power) "Analog ground", C8 AGND (power) "Analog ground", D7 AGND (power) "Analog ground", D9 DGND (power) "Digital ground", D10 DVDD (power) "Digital power supply, +3.3V nominal", E7 AGND (power) "Analog ground", E9 DGND (power) "Digital ground", E10 DVDD (power) "Digital power supply, +3.3V nominal", F7 AGND (power) "Analog ground", F8 AGND (power) "Analog ground", F9 AVDD (power) "Analog power supply, +5V nominal", G7 QGND (power) "Quiet analog ground; see the guidelines described in the Layout section", G8 AVDD (power) "Analog power supply, +5V nominal", G9 AVDD (power) "Analog power supply, +5V nominal", H7 QGND (power) "Quiet analog ground; see the guidelines described in the Layout section", H8 AGND (power) "Analog ground", H9 AVDD (power) "Analog power supply, +5V nominal", H10 DGND (power) "Digital ground", J8 AGND (power) "Analog ground", J9 AVDD (power) "Analog power supply, +5V nominal", J10 DGND (power) "Digital ground", K8 AGND (power) "Analog ground", K9 AVDD (power) "Analog power supply, +5V nominal"

## DDC264CZAWR
designator U?
64-Channel, Current-Input ADC, 0 to 70 degC, 100-pin BGA (ZAW100), Green (RoHS & no Sb/Br); Manufacturer: Texas Instruments; PartNumber: DDC264CZAWR; # Input Channels: 64; Analog Voltage AV/DD(Max)(V): 5.25; Analog Voltage AV/DD(Min)(V): 4.75; Architecture: Delta-Sigma; Digital Supply(Max)(V): 3.6; Digital Supply(Min)(V): 2.7; Resolution(Bits): 20; Sample Rate (max)(SPS): 3.125K; SubFamily: Current Input ADC; DatasheetVersion: SBAS368C; PackageVersion: 4208028/C, 08/2009; PackageReference: ZAW100; PackageDescription: 100-Pin Plastic Ball Grid Array, Body 9 x 9 mm, Pitch 0.8 mm; Supplier 1: Digi-Key; Supplier Part Number 1: ADS7800JU-ND; Eco-Plan: Green (RoHS & no Sb/Br); Mounting Technology: Surface Mount; ComponentLink1Description: Manufacturer URL; ComponentLink1URL: http://www.ti.com/; ComponentLink2Description: Datasheet; ComponentLink2URL: http://www.ti.com/general/docs/lit/getliterature.tsp?genericPartNumber=DDC264&fileType=pdf; ComponentLink3Description: Package Specification; ComponentLink3URL: http://www.ti.com/litv/pdf/mpbg757b
footprint TI-ZAW100 (BGA, 100-Balls, Body 9x9mm, Pitch 0.8mm)
part A pins: A1 IN58 (in) "Analog inputs for channels 1 to 64", A2 IN26 (in) "Analog inputs for channels 1 to 64", A3 IN59 (in) "Analog inputs for channels 1 to 64", A4 IN32 (in) "Analog inputs for channels 1 to 64", A5 IN63 (in) "Analog inputs for channels 1 to 64", A6 IN31 (in) "Analog inputs for channels 1 to 64", A7 IN64 (in) "Analog inputs for channels 1 to 64", B1 IN57 (in) "Analog inputs for channels 1 to 64", B2 IN25 (in) "Analog inputs for channels 1 to 64", B3 IN60 (in) "Analog inputs for channels 1 to 64", B4 IN27 (in) "Analog inputs for channels 1 to 64", B5 IN62 (in) "Analog inputs for channels 1 to 64", B6 IN30 (in) "Analog inputs for channels 1 to 64", B7 IN24 (in) "Analog inputs for channels 1 to 64", C1 IN55 (in) "Analog inputs for channels 1 to 64", C2 IN23 (in) "Analog inputs for channels 1 to 64", C3 IN56 (in) "Analog inputs for channels 1 to 64", C4 IN28 (in) "Analog inputs for channels 1 to 64", C5 IN61 (in) "Analog inputs for channels 1 to 64", C6 IN29 (in) "Analog inputs for channels 1 to 64", D1 IN51 (in) "Analog inputs for channels 1 to 64", D2 IN20 (in) "Analog inputs for channels 1 to 64", D3 IN53 (in) "Analog inputs for channels 1 to 64", D4 IN21 (in) "Analog inputs for channels 1 to 64", D5 IN54 (in) "Analog inputs for channels 1 to 64", D6 IN22 (in) "Analog inputs for channels 1 to 64", E1 IN49 (in) "Analog inputs for channels 1 to 64", E2 IN19 (in) "Analog inputs for channels 1 to 64", E3 IN50 (in) "Analog inputs for channels 1 to 64", E4 IN18 (in) "Analog inputs for channels 1 to 64", E5 IN52 (in) "Analog inputs for channels 1 to 64", E6 IN17 (in) "Analog inputs for channels 1 to 64", F1 IN16 (in) "Analog inputs for channels 1 to 64", F2 IN48 (in) "Analog inputs for channels 1 to 64", F3 IN15 (in) "Analog inputs for channels 1 to 64", F4 IN47 (in) "Analog inputs for channels 1 to 64", F5 IN14 (in) "Analog inputs for channels 1 to 64", F6 IN46 (in) "Analog inputs for channels 1 to 64", G1 IN45 (in) "Analog inputs for channels 1 to 64", G2 IN12 (in) "Analog inputs for channels 1 to 64", G3 IN44 (in) "Analog inputs for channels 1 to 64", G4 IN11 (in) "Analog inputs for channels 1 to 64", G5 IN43 (in) "Analog inputs for channels 1 to 64", G6 IN13 (in) "Analog inputs for channels 1 to 64", H1 IN8 (in) "Analog inputs for channels 1 to 64", H2 IN41 (in) "Analog inputs for channels 1 to 64", H3 IN9 (in) "Analog inputs for channels 1 to 64", H4 IN42 (in) "Analog inputs for channels 1 to 64", H5 IN10 (in) "Analog inputs for channels 1 to 64", H6 IN36 (in) "Analog inputs for channels 1 to 64", J1 IN40 (in) "Analog inputs for channels 1 to 64", J2 IN7 (in) "Analog inputs for channels 1 to 64", J3 IN6 (in) "Analog inputs for channels 1 to 64", J4 IN5 (in) "Analog inputs for channels 1 to 64", J5 IN35 (in) "Analog inputs for channels 1 to 64", J6 IN4 (in) "Analog inputs for channels 1 to 64", J7 IN2 (in) "Analog inputs for channels 1 to 64", K1 IN39 (in) "Analog inputs for channels 1 to 64", K2 IN38 (in) "Analog inputs for channels 1 to 64", K3 IN37 (in) "Analog inputs for channels 1 to 64", K4 IN3 (in) "Analog inputs for channels 1 to 64", K5 IN34 (in) "Analog inputs for channels 1 to 64", K6 IN33 (in) "Analog inputs for channels 1 to 64", K7 IN1 (in) "Analog inputs for channels 1 to 64"
part B pins: A9 CLK_CFG (in) "Configuration register clock input", A10 DOUT (out) "Serial data output", B9 DIN_CFG (in) "Configuration register data input", B10 DIN (in) "Serial data input", C9 ~{RESET} (in) "Digital reset, active low", C10 DCLK (in) "Serial data clock input", D8 VREF (in) "External voltage reference input, +4.096V nominal", E8 VREF (in) "External voltage reference input, +4.096V nominal", F10 CLK (in) "Master clock input", G10 ~{DVALID} (out) "Data valid output, active low", K10 CONV (in) "Conversion control input: 0 = integrate on side B; 1 = integrate on side A"
part C pins: A8 AGND (power) "Analog ground", B8 AGND (power) "Analog ground", C7 AGND (power) "Analog ground", C8 AGND (power) "Analog ground", D7 AGND (power) "Analog ground", D9 DGND (power) "Digital ground", D10 DVDD (power) "Digital power supply, +3.3V nominal", E7 AGND (power) "Analog ground", E9 DGND (power) "Digital ground", E10 DVDD (power) "Digital power supply, +3.3V nominal", F7 AGND (power) "Analog ground", F8 AGND (power) "Analog ground", F9 AVDD (power) "Analog power supply, +5V nominal", G7 QGND (power) "Quiet analog ground; see the guidelines described in the Layout section", G8 AVDD (power) "Analog power supply, +5V nominal", G9 AVDD (power) "Analog power supply, +5V nominal", H7 QGND (power) "Quiet analog ground; see the guidelines described in the Layout section", H8 AGND (power) "Analog ground", H9 AVDD (power) "Analog power supply, +5V nominal", H10 DGND (power) "Digital ground", J8 AGND (power) "Analog ground", J9 AVDD (power) "Analog power supply, +5V nominal", J10 DGND (power) "Digital ground", K8 AGND (power) "Analog ground", K9 AVDD (power) "Analog power supply, +5V nominal"

## ICL7135CN
designator U?
4.5-Bit, 0.003 kSPS ADC, Muxed BCD Output, True Differential Input, 1 Channel, 0 to 70 degC, 28-pin DIP (N28), Green (RoHS & no Sb/Br); Manufacturer: Texas Instruments; PartNumber: ICL7135CN; # Input Channels: 4; Analog Voltage AV/DD(Max)(V): 5.25; Analog Voltage AV/DD(Min)(V): 4.75; Architecture: Dual-Slope; Interface: Parallel CMOS; Resolution(Bits): 4.5; Sample Rate (max)(SPS): 3; SubFamily: High Speed ADC (>10MSPS); DatasheetVersion: SLAS074D; PackageVersion: 4040053/B, 04/1995; PackageReference: N28; PackageDescription: 28-Pin Plastic In-Line, Body 36.32 x 13.715 mm, Pitch 2.54 mm; Supplier 1: Digi-Key; Supplier Part Number 1: ADS7800JU/1K-ND; Digital Supply(Max)(V): 5.25; Digital Supply(Min)(V): 4.75; Eco-Plan: Green (RoHS & no Sb/Br); Mounting Technology: Through Hole; Code_JEDEC: MS-011; ComponentLink1Description: Manufacturer URL; ComponentLink1URL: http://www.ti.com/; ComponentLink2Description: Datasheet; ComponentLink2URL: http://www.ti.com/general/docs/lit/getliterature.tsp?genericPartNumber=ICL7135&fileType=pdf; ComponentLink3Description: Package Specification; ComponentLink3URL: http://www.ti.com/litv/pdf/mpdi008
footprint TI-N28 (DIP, 28-Leads, Body 36.32x13.715 mm, Pitch 2.54 mm)
pins: 1 VCC- (power), 2 REF (in), 3 ANLG COMMON (in), 4 INT OUT (out), 5 AUTO ZERO (in), 6 BUFF OUT (out), 7 CREF-, 8 CREF+, 9 IN- (in), 10 IN+ (in), 11 VCC+ (power), 12 D5 (out), 13 B1 (out), 14 B2 (out), 15 B4 (out), 16 B8 (out), 17 D4 (out), 18 D3 (out), 19 D2 (out), 20 D1 (out), 21 BUSY (out), 22 CLK (in), 23 POLARITY (out), 24 DGTL GND (power), 25 RUN/~{HOLD} (in), 26 ~{STROBE} (in), 27 OVER RANGE (out), 28 UNDER RANGE (out)

## ICL7135CNG4
designator U?
4.5-Bit, 0.003 kSPS ADC, Muxed BCD Output, True Differential Input, 1 Channel, 0 to 70 degC, 28-pin DIP (N28), Green (RoHS & no Sb/Br); Manufacturer: Texas Instruments; PartNumber: ICL7135CNG4; # Input Channels: 4; Analog Voltage AV/DD(Max)(V): 5.25; Analog Voltage AV/DD(Min)(V): 4.75; Architecture: Dual-Slope; Interface: Parallel CMOS; Resolution(Bits): 4.5; Sample Rate (max)(SPS): 3; SubFamily: High Speed ADC (>10MSPS); DatasheetVersion: SLAS074D; PackageVersion: 4040053/B, 04/1995; PackageReference: N28; PackageDescription: 28-Pin Plastic In-Line, Body 36.32 x 13.715 mm, Pitch 2.54 mm; Supplier 1: Digi-Key; Supplier Part Number 1: ADS7800JU/1KE4-ND; Digital Supply(Max)(V): 5.25; Digital Supply(Min)(V): 4.75; Eco-Plan: Green (RoHS & no Sb/Br); Mounting Technology: Through Hole; Code_JEDEC: MS-011; ComponentLink1Description: Manufacturer URL; ComponentLink1URL: http://www.ti.com/; ComponentLink2Description: Datasheet; ComponentLink2URL: http://www.ti.com/general/docs/lit/getliterature.tsp?genericPartNumber=ICL7135&fileType=pdf; ComponentLink3Description: Package Specification; ComponentLink3URL: http://www.ti.com/litv/pdf/mpdi008
footprint TI-N28 (DIP, 28-Leads, Body 36.32x13.715 mm, Pitch 2.54 mm)
pins: 1 VCC- (power), 2 REF (in), 3 ANLG COMMON (in), 4 INT OUT (out), 5 AUTO ZERO (in), 6 BUFF OUT (out), 7 CREF-, 8 CREF+, 9 IN- (in), 10 IN+ (in), 11 VCC+ (power), 12 D5 (out), 13 B1 (out), 14 B2 (out), 15 B4 (out), 16 B8 (out), 17 D4 (out), 18 D3 (out), 19 D2 (out), 20 D1 (out), 21 BUSY (out), 22 CLK (in), 23 POLARITY (out), 24 DGTL GND (power), 25 RUN/~{HOLD} (in), 26 ~{STROBE} (in), 27 OVER RANGE (out), 28 UNDER RANGE (out)

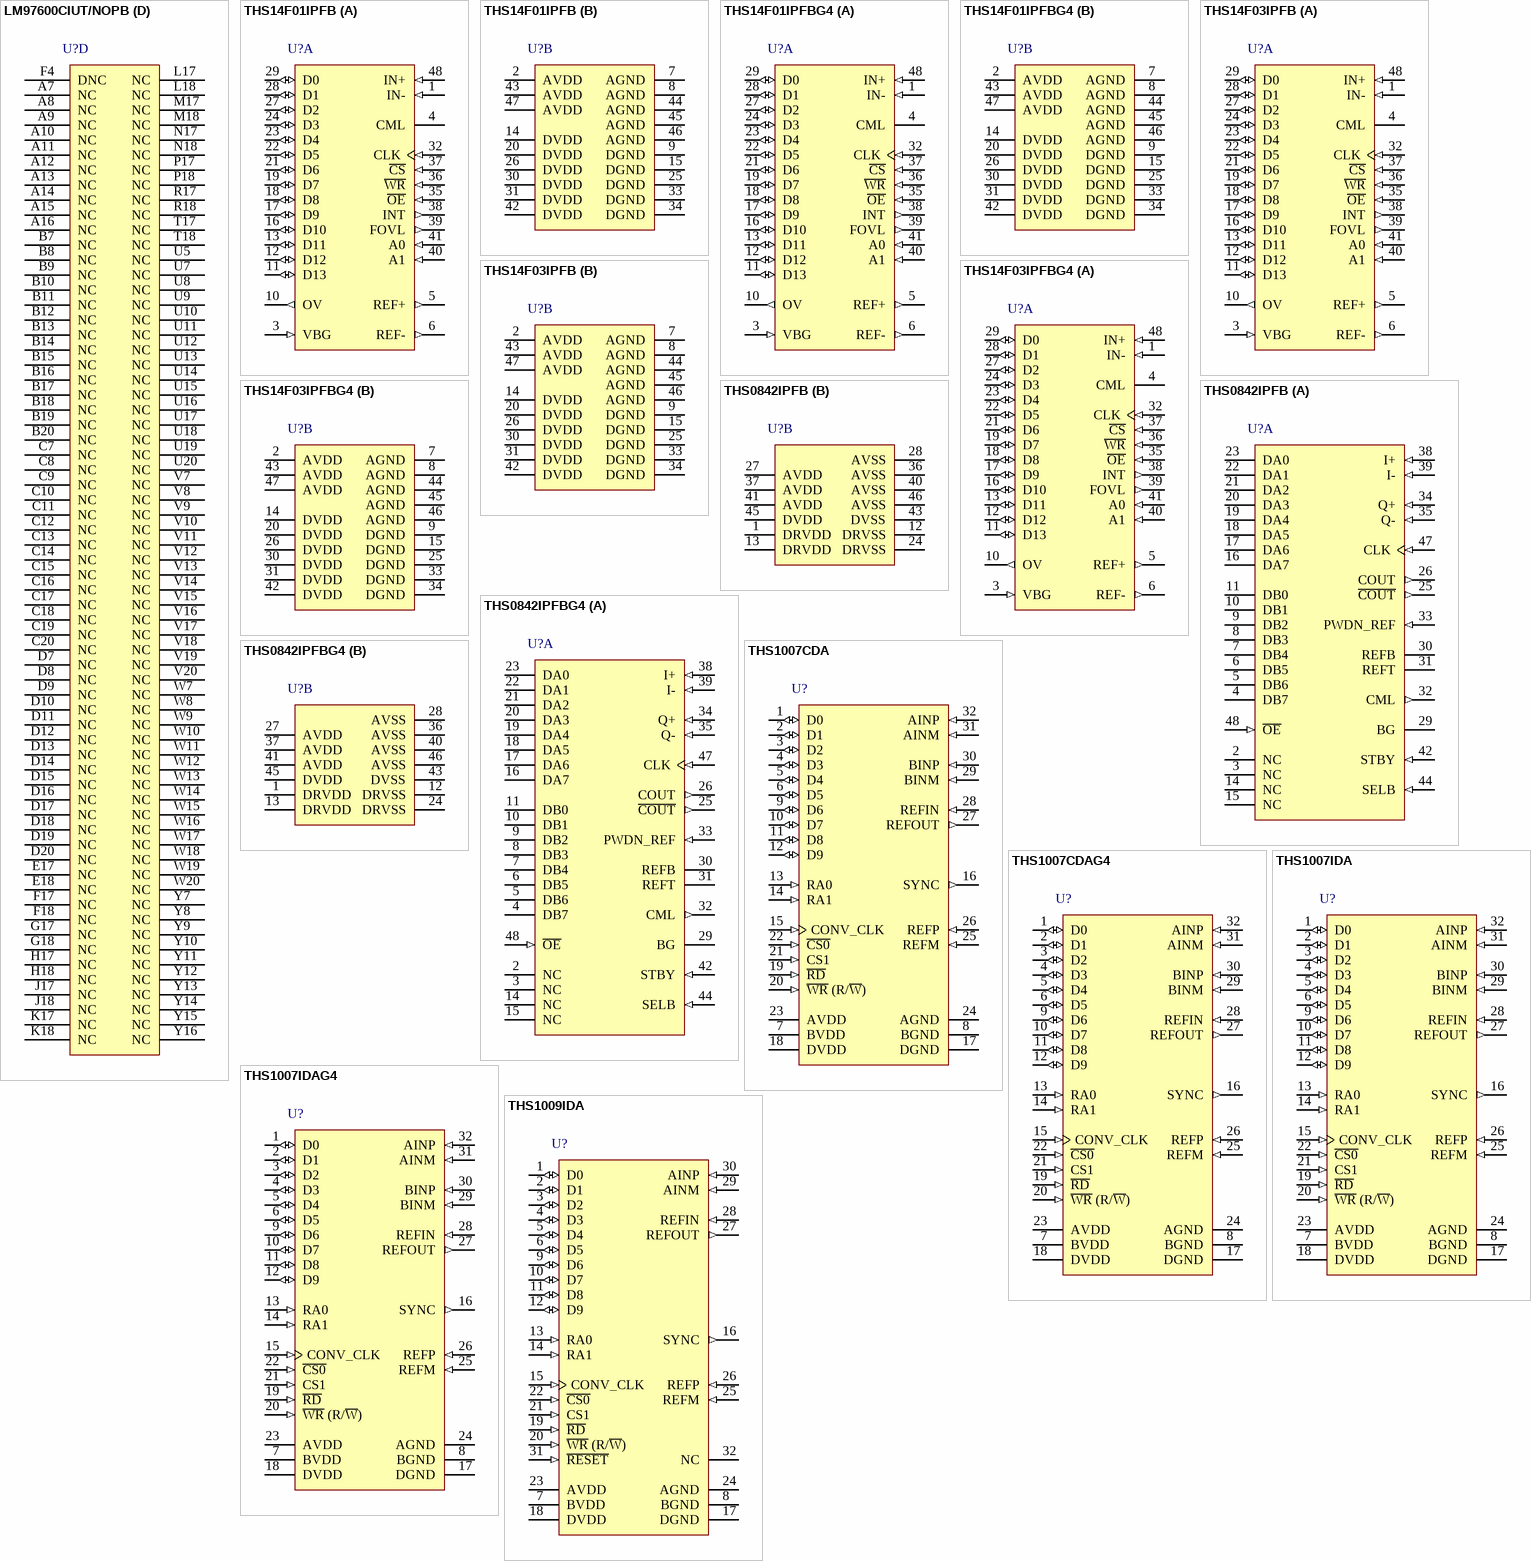
[diagram p93: symbols LM97600CIUT/NOPB to THS1009IDA]